# EAGLE library part DB9 (library dooba)
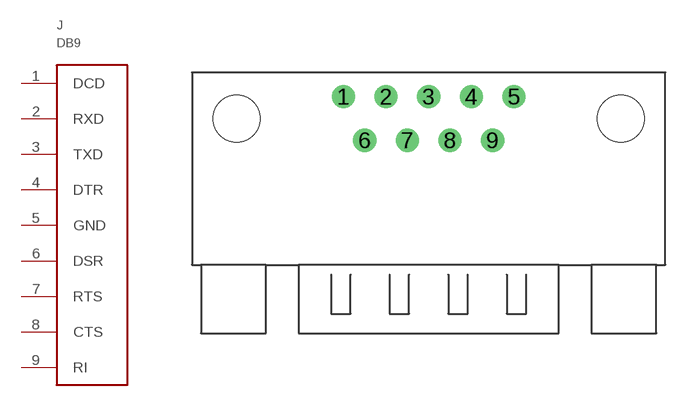
[diagram p58: symbol with the pads of A-DS09AKG; footprint A-DS09AKG]

Designator prefix J

## DB9A-DS09AKG  [A-DS09AKG]
1  DCD
2  RXD
3  TXD
4  DTR
5  GND
6  DSR
7  RTS
8  CTS
9  RI

## Footprint A-DS09AKG (pad centres in mm)
drill 1: 1 -5.54,1.42; 2 -2.77,1.42; 3 0,1.42; 4 2.77,1.42; 5 5.54,1.42; 6 -4.155,-1.42; 7 -1.385,-1.42; 8 1.385,-1.42; 9 4.155,-1.42
hole 3.05 at -12.495,0
hole 3.05 at 12.495,0